# Altium integrated library Microcontroller.IntLib: 5 symbols
Pins are listed as number, name and electrical type; pins without a type are passive.

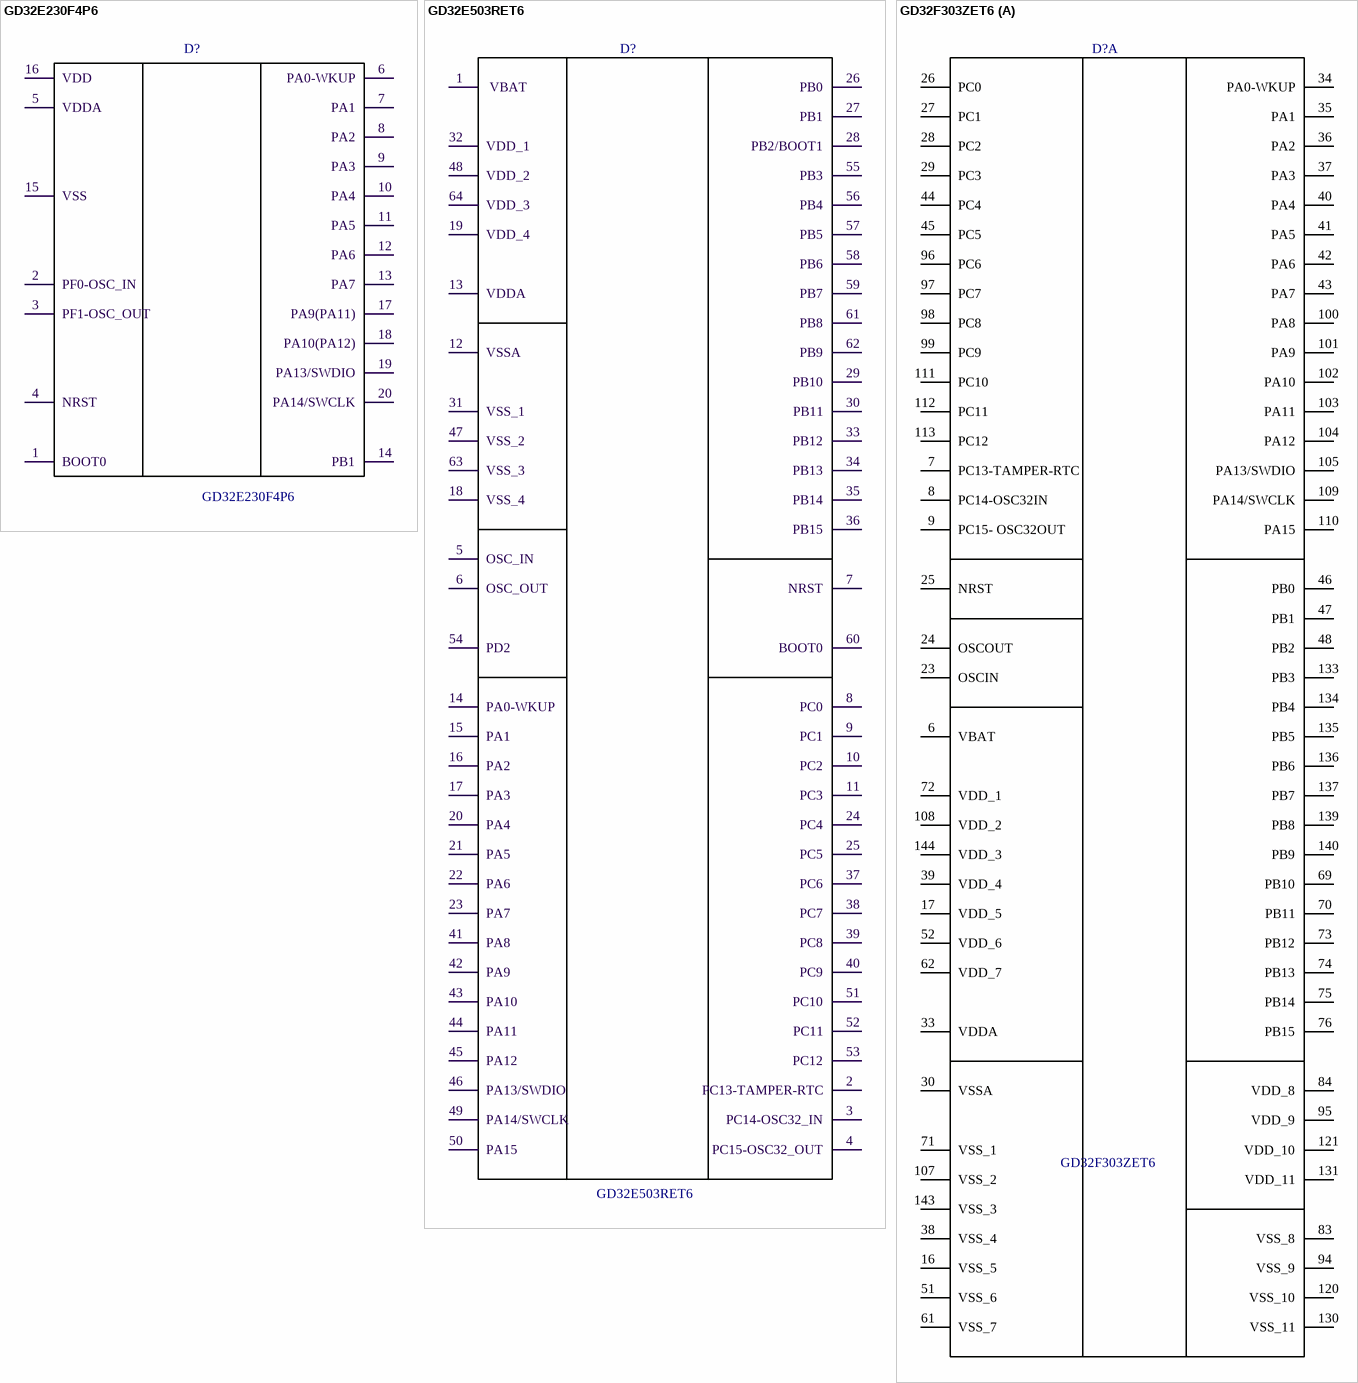
[diagram p0: symbols GD32E230F4P6 to GD32F303ZET6]

## GD32E230F4P6
designator D?
ARM® Cortex®-M23 GD32E2 Microcontroller IC 32-Bit Single-Core 72MHz 16KB FLASH; Manufacture: GigaDevice Semiconductor Inc.; Name: Микроконтроллер; Case: TSSOP20; HelpURL: http://gd32mcu.com/data/documents/shujushouce/GD32E230xx_Datasheet_Rev1.3.pdf; Model: GD32E230F4P6; Value: GD32E230F4P6
footprint TSSOP20
pins: 1 BOOT0 "Вход", 2 PF0-OSC_IN "Вход", 3 PF1-OSC_OUT "Вход", 4 NRST "Вход", 5 VDDA "Вход", 6 PA0-WKUP "Вход", 7 PA1 "Вход", 8 PA2 "Вход", 9 PA3 "Вход", 10 PA4 "Вход", 11 PA5 "Вход", 12 PA6 "Вход", 13 PA7 "Вход", 14 PB1 "Вход", 15 VSS "Вход", 16 VDD "Вход", 17 PA9(PA11) "Вход", 18 PA10(PA12) "Вход", 19 PA13/SWDIO "Вход", 20 PA14/SWCLK "Вход"

## GD32E503RET6
designator D?
ARM® Cortex®-M33 GD32E5 Microcontroller IC 32-Bit Single-Core 180MHz 512KB FLASH; Manufacture: GigaDevice Semiconductor Inc.; Name: Микроконтроллер; Case: 64-LQFP; HelpURL: https://gd32mcu.com/data/documents/datasheet/GD32E503xx_Datasheet_Rev1.5.pdf; Model: GD32E503RET6; Value: GD32E503RET6
footprint 64-LQFP (10x10) (TSQFP, 64-Leads, Body 10,00x10,00mm, Pitch 0,50mm, IPC Medium Density)
pins: 1  VBAT  "Вход", 2 PC13-TAMPER-RTC "Вход", 3 PC14-OSC32_IN "Вход", 4 PC15-OSC32_OUT "Вход", 5 OSC_IN "Вход", 6 OSC_OUT "Вход", 7 NRST "Вход", 8 PC0 "Вход", 9 PC1 "Вход", 10 PC2 "Вход", 11 PC3 "Вход", 12 VSSA "Вход", 13 VDDA "Вход", 14 PA0-WKUP "Вход", 15 PA1 "Вход", 16 PA2 "Вход", 17 PA3 "Вход", 18 VSS_4 "Вход", 19 VDD_4 "Вход", 20 PA4 "Вход", 21 PA5 "Вход", 22 PA6 "Вход", 23 PA7 "Вход", 24 PC4 "Вход", 25 PC5 "Вход", 26 PB0 "Вход", 27 PB1 "Вход", 28 PB2/BOOT1 "Вход", 29 PB10 "Вход", 30 PB11 "Вход", 31 VSS_1  "Вход", 32 VDD_1 "Вход", 33 PB12 "Вход", 34 PB13 "Вход", 35 PB14 "Вход", 36 PB15 "Вход", 37 PC6 "Вход", 38 PC7 "Вход", 39 PC8 "Вход", 40 PC9 "Вход", 41 PA8 "Вход", 42 PA9 "Вход", 43 PA10 "Вход", 44 PA11 "Вход", 45 PA12 "Вход", 46 PA13/SWDIO "Вход", 47 VSS_2 "Вход", 48 VDD_2 "Вход", 49 PA14/SWCLK "Вход", 50 PA15 "Вход", 51 PC10 "Вход", 52 PC11 "Вход", 53 PC12 "Вход", 54 PD2 "Вход", 55 PB3 "Вход", 56 PB4 "Вход", 57 PB5 "Вход", 58 PB6 "Вход", 59 PB7 "Вход", 60 BOOT0 "Вход", 61 PB8 "Вход", 62 PB9 "Вход", 63 VSS_3 "Вход", 64 VDD_3 "Вход"

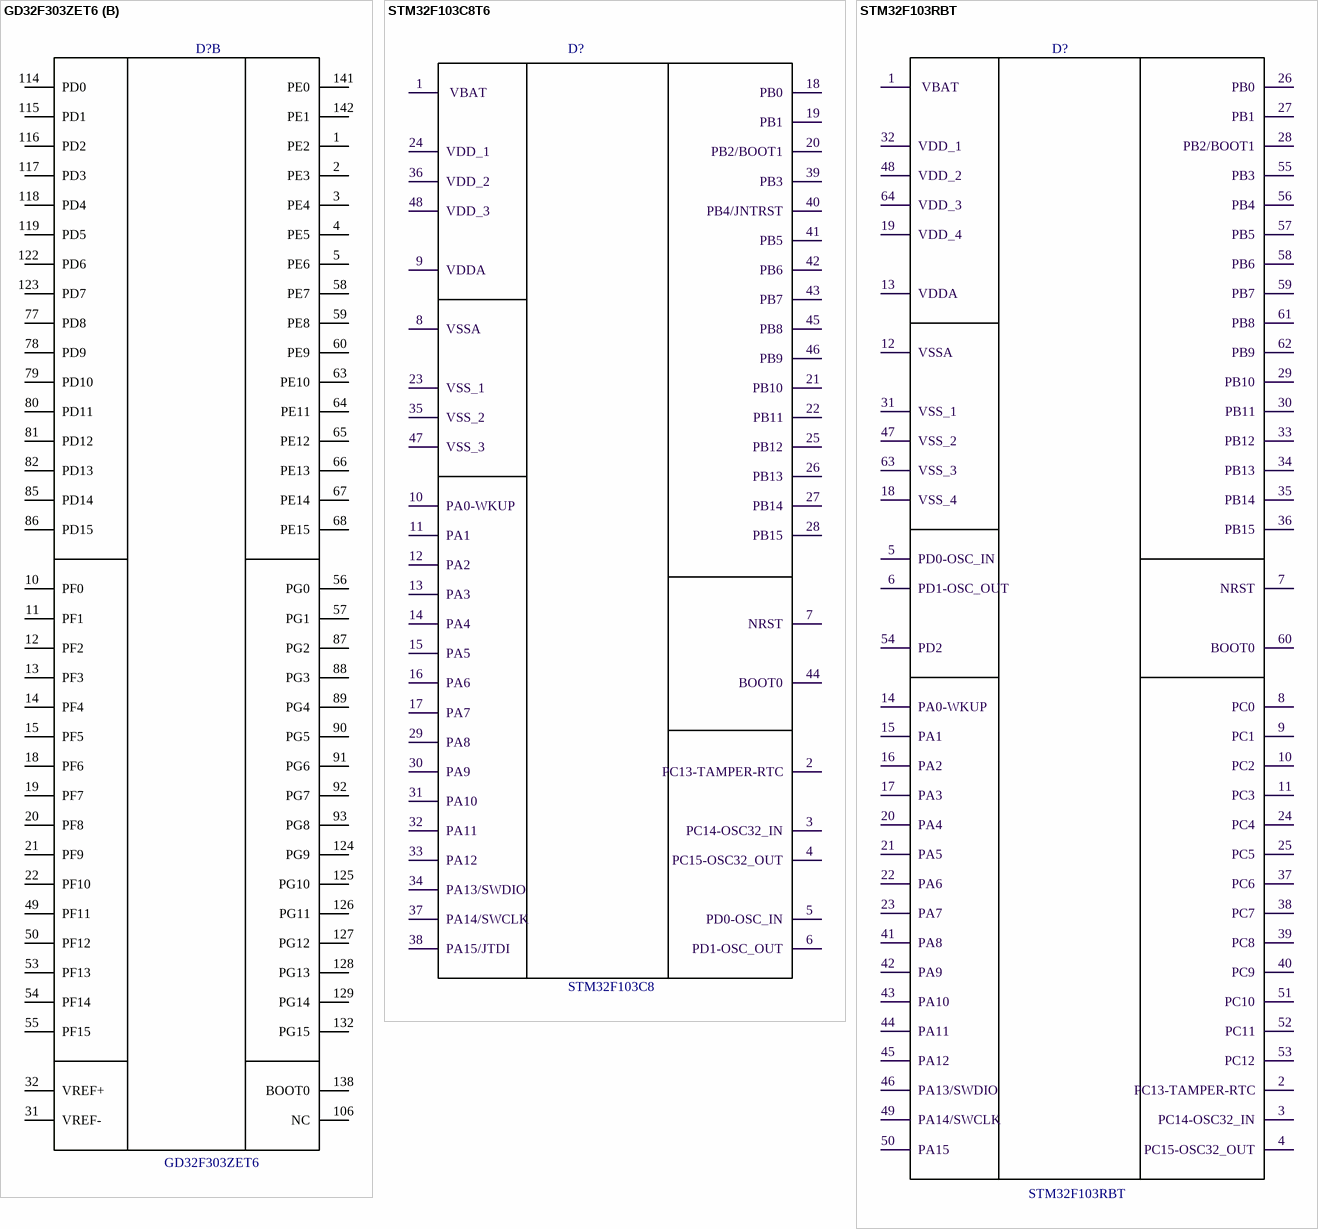
[diagram p1: symbols GD32F303ZET6 to STM32F103RBT]

## GD32F303ZET6
designator D?
ARM® Cortex®-M4 GD32F3 Microcontroller IC 32-Bit Single-Core 120MHz 256KB FLASH; Manufacture: GigaDevice Semiconductor Inc.; Name: Микроконтроллер; Case: 144-LQFP; HelpURL: https://gd32mcu.com/data/documents/datasheet/GD32F303xx_Datasheet_Rev2.0.pdf; Model: GD32F303ZET6; Value: GD32F303ZET6
footprint 144-LQFP (22x22)
part A pins: 6 VBAT "Вход", 7 PC13-TAMPER-RTC "Вход", 8 PC14-OSC32IN "Вход", 9 PC15- OSC32OUT "Вход", 16 VSS_5 "Вход", 17 VDD_5 "Вход", 23 OSCIN "Вход", 24 OSCOUT "Вход", 25 NRST "Вход", 26 PC0 "Вход", 27 PC1 "Вход", 28 PC2 "Вход", 29 PC3 "Вход", 30 VSSA "Вход", 33 VDDA "Вход", 34 PA0-WKUP "Вход", 35 PA1 "Вход", 36 PA2 "Вход", 37 PA3 "Вход", 38 VSS_4 "Вход", 39 VDD_4 "Вход", 40 PA4 "Вход", 41 PA5 "Вход", 42 PA6 "Вход", 43 PA7 "Вход", 44 PC4 "Вход", 45 PC5 "Вход", 46 PB0 "Вход", 47 PB1 "Вход", 48 PB2 "Вход", 51 VSS_6 "Вход", 52 VDD_6 "Вход", 61 VSS_7 "Вход", 62 VDD_7 "Вход", 69 PB10, 70 PB11, 71 VSS_1, 72 VDD_1, 73 PB12, 74 PB13, 75 PB14, 76 PB15, 83 VSS_8, 84 VDD_8, 94 VSS_9, 95 VDD_9, 96 PC6, 97 PC7, 98 PC8, 99 PC9, 100 PA8, 101 PA9, 102 PA10, 103 PA11, 104 PA12, 105 PA13/SWDIO, 107 VSS_2, 108 VDD_2, 109 PA14/SWCLK, 110 PA15, 111 PC10, 112 PC11, 113 PC12, 120 VSS_10, 121 VDD_10, 130 VSS_11, 131 VDD_11, 133 PB3, 134 PB4, 135 PB5, 136 PB6, 137 PB7, 139 PB8, 140 PB9, 143 VSS_3, 144 VDD_3
part B pins: 1 PE2 "Вход", 2 PE3 "Вход", 3 PE4 "Вход", 4 PE5 "Вход", 5 PE6 "Вход", 10 PF0 "Вход", 11 PF1 "Вход", 12 PF2 "Вход", 13 PF3 "Вход", 14 PF4 "Вход", 15 PF5 "Вход", 18 PF6 "Вход", 19 PF7 "Вход", 20 PF8 "Вход", 21 PF9 "Вход", 22 PF10 "Вход", 31 VREF- "Вход", 32 VREF+ "Вход", 49 PF11 "Вход", 50 PF12 "Вход", 53 PF13 "Вход", 54 PF14 "Вход", 55 PF15 "Вход", 56 PG0 "Вход", 57 PG1 "Вход", 58 PE7 "Вход", 59 PE8 "Вход", 60 PE9 "Вход", 63 PE10 "Вход", 64 PE11 "Вход", 65 PE12, 66 PE13, 67 PE14, 68 PE15, 77 PD8, 78 PD9, 79 PD10, 80 PD11, 81 PD12, 82 PD13, 85 PD14, 86 PD15, 87 PG2, 88 PG3, 89 PG4, 90 PG5, 91 PG6, 92 PG7, 93 PG8, 106 NC, 114 PD0, 115 PD1, 116 PD2, 117 PD3, 118 PD4, 119 PD5, 122 PD6, 123 PD7, 124 PG9, 125 PG10, 126 PG11, 127 PG12, 128 PG13, 129 PG14, 132 PG15, 138 BOOT0, 141 PE0, 142 PE1

## STM32F103C8T6
designator D?, comment STM32F103C8
ARM® Cortex®-M3 STM32F1 Microcontroller IC 32-Bit Single-Core 72MHz 64KB (64K x 8) FLASH 48-LQFP (7x7); Manufacture: STMicroelectronics; Model: STM32F103C8T; Name: Микроконтроллер; Case: 48-LQFP; HelpURL: https://www.digikey.com/product-detail/en/stmicroelectronics/STM32F103C8T7TR/STM32F103C8T7TR-ND/5268214; Value: STM32F103C8
footprint 48-LQFP (7x7) (TSQFP, 48-Leads, Body 7,00x7,00mm, Pitch 0,50mm, Thermal Pad 5,50x5,50mm, IPC Medium Density)
pins: 1  VBAT  "Вход", 2 PC13-TAMPER-RTC "Вход", 3 PC14-OSC32_IN "Вход", 4 PC15-OSC32_OUT "Вход", 5 PD0-OSC_IN "Вход", 6 PD1-OSC_OUT "Вход", 7 NRST "Вход", 8 VSSA "Вход", 9 VDDA "Вход", 10 PA0-WKUP "Вход", 11 PA1 "Вход", 12 PA2 "Вход", 13 PA3 "Вход", 14 PA4 "Вход", 15 PA5 "Вход", 16 PA6 "Вход", 17 PA7 "Вход", 18 PB0 "Вход", 19 PB1 "Вход", 20 PB2/BOOT1 "Вход", 21 PB10 "Вход", 22 PB11 "Вход", 23 VSS_1  "Вход", 24 VDD_1 "Вход", 25 PB12 "Вход", 26 PB13 "Вход", 27 PB14 "Вход", 28 PB15 "Вход", 29 PA8 "Вход", 30 PA9 "Вход", 31 PA10 "Вход", 32 PA11 "Вход", 33 PA12 "Вход", 34 PA13/SWDIO "Вход", 35 VSS_2 "Вход", 36 VDD_2 "Вход", 37 PA14/SWCLK "Вход", 38 PA15/JTDI "Вход", 39 PB3 "Вход", 40 PB4/JNTRST "Вход", 41 PB5 "Вход", 42 PB6 "Вход", 43 PB7 "Вход", 44 BOOT0 "Вход", 45 PB8 "Вход", 46 PB9 "Вход", 47 VSS_3 "Вход", 48 VDD_3 "Вход"

## STM32F103RBT
designator D?
ARM® Cortex®-M3 STM32F1 Microcontroller IC 32-Bit Single-Core 72MHz 128KB (128K x 8) FLASH; Manufacture: STMicroelectronics; Name: Микроконтроллер; Case: 64-LQFP; HelpURL: https://www.digikey.com/product-detail/en/stmicroelectronics/STM32F103RBT6/497-6066-ND/1646341; Model: STM32F103RBT; Value: STM32F103RBT
footprint 64-LQFP (10x10) (TSQFP, 64-Leads, Body 10,00x10,00mm, Pitch 0,50mm, IPC Medium Density)
pins: 1  VBAT  "Вход", 2 PC13-TAMPER-RTC "Вход", 3 PC14-OSC32_IN "Вход", 4 PC15-OSC32_OUT "Вход", 5 PD0-OSC_IN "Вход", 6 PD1-OSC_OUT "Вход", 7 NRST "Вход", 8 PC0 "Вход", 9 PC1 "Вход", 10 PC2 "Вход", 11 PC3 "Вход", 12 VSSA "Вход", 13 VDDA "Вход", 14 PA0-WKUP "Вход", 15 PA1 "Вход", 16 PA2 "Вход", 17 PA3 "Вход", 18 VSS_4 "Вход", 19 VDD_4 "Вход", 20 PA4 "Вход", 21 PA5 "Вход", 22 PA6 "Вход", 23 PA7 "Вход", 24 PC4 "Вход", 25 PC5 "Вход", 26 PB0 "Вход", 27 PB1 "Вход", 28 PB2/BOOT1 "Вход", 29 PB10 "Вход", 30 PB11 "Вход", 31 VSS_1  "Вход", 32 VDD_1 "Вход", 33 PB12 "Вход", 34 PB13 "Вход", 35 PB14 "Вход", 36 PB15 "Вход", 37 PC6 "Вход", 38 PC7 "Вход", 39 PC8 "Вход", 40 PC9 "Вход", 41 PA8 "Вход", 42 PA9 "Вход", 43 PA10 "Вход", 44 PA11 "Вход", 45 PA12 "Вход", 46 PA13/SWDIO "Вход", 47 VSS_2 "Вход", 48 VDD_2 "Вход", 49 PA14/SWCLK "Вход", 50 PA15 "Вход", 51 PC10 "Вход", 52 PC11 "Вход", 53 PC12 "Вход", 54 PD2 "Вход", 55 PB3 "Вход", 56 PB4 "Вход", 57 PB5 "Вход", 58 PB6 "Вход", 59 PB7 "Вход", 60 BOOT0 "Вход", 61 PB8 "Вход", 62 PB9 "Вход", 63 VSS_3 "Вход", 64 VDD_3 "Вход"